# Altium schematic symbol library 1n4148 smd.SchLib: 1 symbol
Pins are listed as number, name and electrical type; pins without a type are passive.

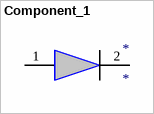
[diagram p0: symbol Component_1]

## Component_1
designator *
footprint DIOMELF3615N (MELF Diode, 2-Leads, Body 3,55x1,45mm, IPC Medium Density)
pins: 1, 2